# EAGLE library part LSF0108 (library deiring-components)
Auto-Bidirectional Multi-Voltage Level Translator for Open-Drain and Push-Pull
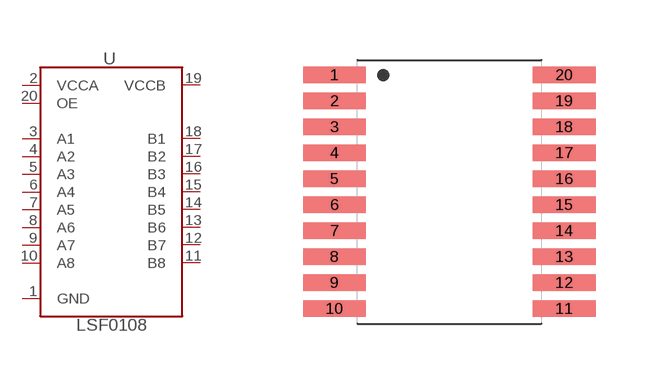
[diagram p22: symbol with the pads of TSSOP-20; footprint TSSOP-20]

Designator prefix U

## LSF0108-TSSOP-20 (LCSC: C190219; MF: Texas Instruments; MPN: LSF0108PWR; VALUE: LSF0108)  [TSSOP-20]
1  GND  pwr
2  VCCA  pwr
3  A1
4  A2
5  A3
6  A4
7  A5
8  A6
9  A7
10  A8
11  B8
12  B7
13  B6
14  B5
15  B4
16  B3
17  B2
18  B1
19  VCCB  pwr
20  OE

## Footprint TSSOP-20 (pad centres in mm)
smd 1.572 x 0.407: 1 -2.872,2.925; 2 -2.872,2.275; 3 -2.872,1.625; 4 -2.872,0.975; 5 -2.872,0.325; 6 -2.872,-0.325; 7 -2.872,-0.975; 8 -2.872,-1.625; 9 -2.872,-2.275; 10 -2.872,-2.925; 11 2.872,-2.925; 12 2.872,-2.275; 13 2.872,-1.625; 14 2.872,-0.975; 15 2.872,-0.325; 16 2.872,0.325; 17 2.872,0.975; 18 2.872,1.625; 19 2.872,2.275; 20 2.872,2.925